# EAGLE library part CONNECTOR-IO4-IOB (library SPCoast)
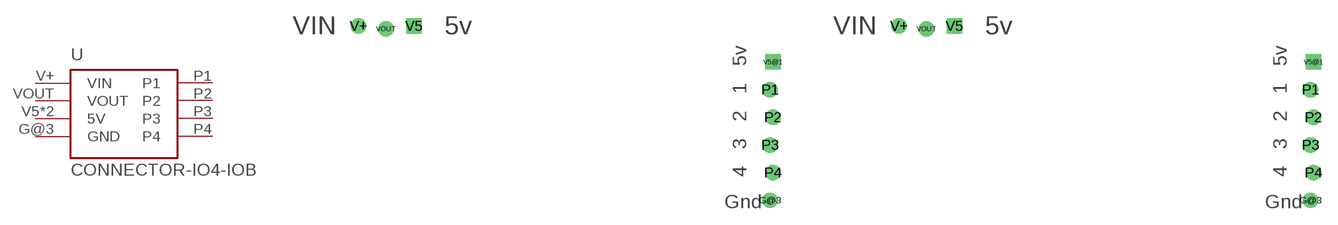
[diagram p59: symbol with the pads of IO4-IOB; footprints IO4-IOB, IOB-IO4-NOBOTSILK]

Designator prefix -

## CONNECTOR-IO4-IOBFULL  [IO4-IOB]
G@3  GND  sup
P1  P1
P2  P2
P3  P3
P4  P4
V5  5V  sup
V5@1  5V  sup
V+  VIN  sup
VOUT  VOUT  sup

## CONNECTOR-IO4-IOBNOBSILK  [IOB-IO4-NOBOTSILK]
Pads as for IO4-IOB

## Footprint IO4-IOB (pad centres in mm)
drill 0.9: G@3 44.958,2.286; P1 44.958,12.446; P2 45.212,9.906; P3 44.958,7.366; P4 45.212,4.826; V+ 7.239,18.288; VOUT 9.779,18.034
drill 0.9 square: V5 12.319,18.288; V5@1 45.212,14.986

## Footprint IOB-IO4-NOBOTSILK (pad centres in mm)
drill 0.9: G@3 44.958,2.286; P1 44.958,12.446; P2 45.212,9.906; P3 44.958,7.366; P4 45.212,4.826; V+ 7.239,18.288; VOUT 9.779,18.034
drill 0.9 square: V5 12.319,18.288; V5@1 45.212,14.986